# Altium schematic symbol library 10x1(3.5mm).SchLib: 1 symbol
Pins are listed as number, name and electrical type; pins without a type are passive.

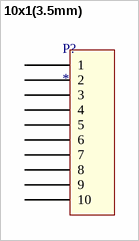
[diagram p0: symbol 10x1(3.5mm)]

## 10x1(3.5mm)
designator P?
footprint 10x1(3.5mm)
footprint Model Name (Footprint not found)
pins: 1, 2, 3, 4, 5, 6, 7, 8, 9, 10